# Altium footprint library Heat_Sink.PcbLib: 3 footprints
Each footprint in its own frame and in the unit in brackets; x right, y up, seen from the top. Pads: shape width x height; smd on the part's side, far side on the other; paste and mask are expansions set on the pad; w line width, h text height; cw(c..) or ccw(c..) is an arc to the next point about the centre after c.
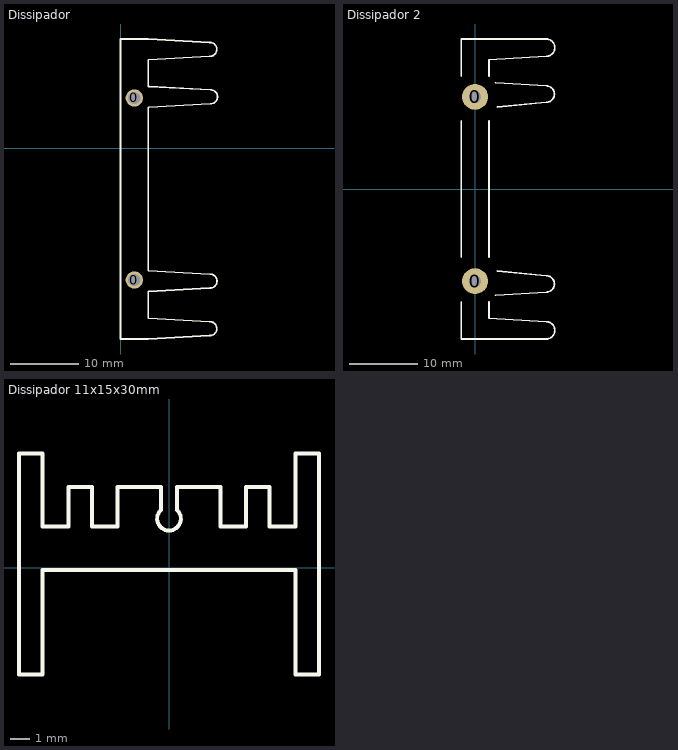
[diagram p0: the footprints below, top view; thin cyan lines are the x and y axes]

## Dissipador [mil]
height 669.29
pads (2):
  round 100 hole 71: 0(77.48,-761.81) 0(77.48,289.37)
Top Overlay:
  lines w10: 157.48,-828.22 157.48,-982.22 511.81,-1002.22 ; 157.48,-708.22 157.48,235.78 ; 157.48,355.78 157.48,509.78 511.81,529.78 ; 158.74,-827.82 513.07,-807.82 ; 158.74,-707.82 513.07,-727.82 ; 161.69,236.16 516.02,256.16 ; 161.69,356.16 516.02,336.16 ; 511.81,-1082.22 157.48,-1102.22 -2.52,-1102.22 -2.52,629.78 157.48,629.78 511.81,609.78 ; 513.59,-1082.38 ccw(c513.59,-1042.22) 513.59,-1002.06 ; 513.59,529.62 ccw(c513.59,569.78) 513.59,609.94 ; 514.85,-807.98 ccw(c514.85,-767.82) 514.85,-727.66 ; 517.8,256 ccw(c517.8,296.16) 517.8,336.31
3D body: height 673.23, standoff -196.85, extent -2.52,-1088.58 525.04,616.14

## Dissipador 2 [mil]
height 826.77
pads (2):
  round 150 hole 71: 0(0,-531.5) 0(0,531.5)
Top Overlay:
  lines w10: -80,-649.46 -80,-865 410,-865 ccw(c410,-815) 410,-765 80,-746 80,-649.46 ; -80,-393.56 -80,-216.5 -80,216.5 -80,393.84 ; -80,649.46 -80,865 410,865 cw(c410,815) 410,765 80,746 80,649.46 ; 80,-393.56 80,393.84 ; 118.54,-612.23 410,-595 ccw(c410,-547.5) 410,-500 128.54,-472.77 ; 118.54,612.23 410,595 cw(c410,547.5) 410,500 128.54,472.77
3D body: height 830.71, standoff -196.85, extent -80,-852.36 447.56,852.36

## Dissipador 11x15x30mm [mil]
Top Overlay:
  lines w7.87: -16.7,115.13 ccw(c0,98.43) 16.7,115.13 ; -15.75,115.13 -15.75,161.42 -102.36,161.42 -102.36,82.68 -153.54,82.68 -153.54,161.42 -200.79,161.42 -200.79,82.68 -251.97,82.68 -251.97,228.35 -299.21,228.35 -299.21,-212.6 -251.97,-212.6 -251.97,-3.94 0,-3.94 251.97,-3.94 251.97,-212.6 299.21,-212.6 299.21,228.35 251.97,228.35 251.97,82.68 200.79,82.68 200.79,161.42 153.54,161.42 153.54,82.68 102.36,82.68 102.36,161.42 15.75,161.42 15.75,115.13
3D body: height 1181.1, standoff 0, extent -295.28,-208.66 295.28,224.41